# Altium footprint library Common.PcbLib: 50 footprints (part 2 of 4)
Each footprint in its own frame and in the unit in brackets; x right, y up, seen from the top. Pads: shape width x height; smd on the part's side, far side on the other; paste and mask are expansions set on the pad; w line width, h text height; cw(c..) or ccw(c..) is an arc to the next point about the centre after c.
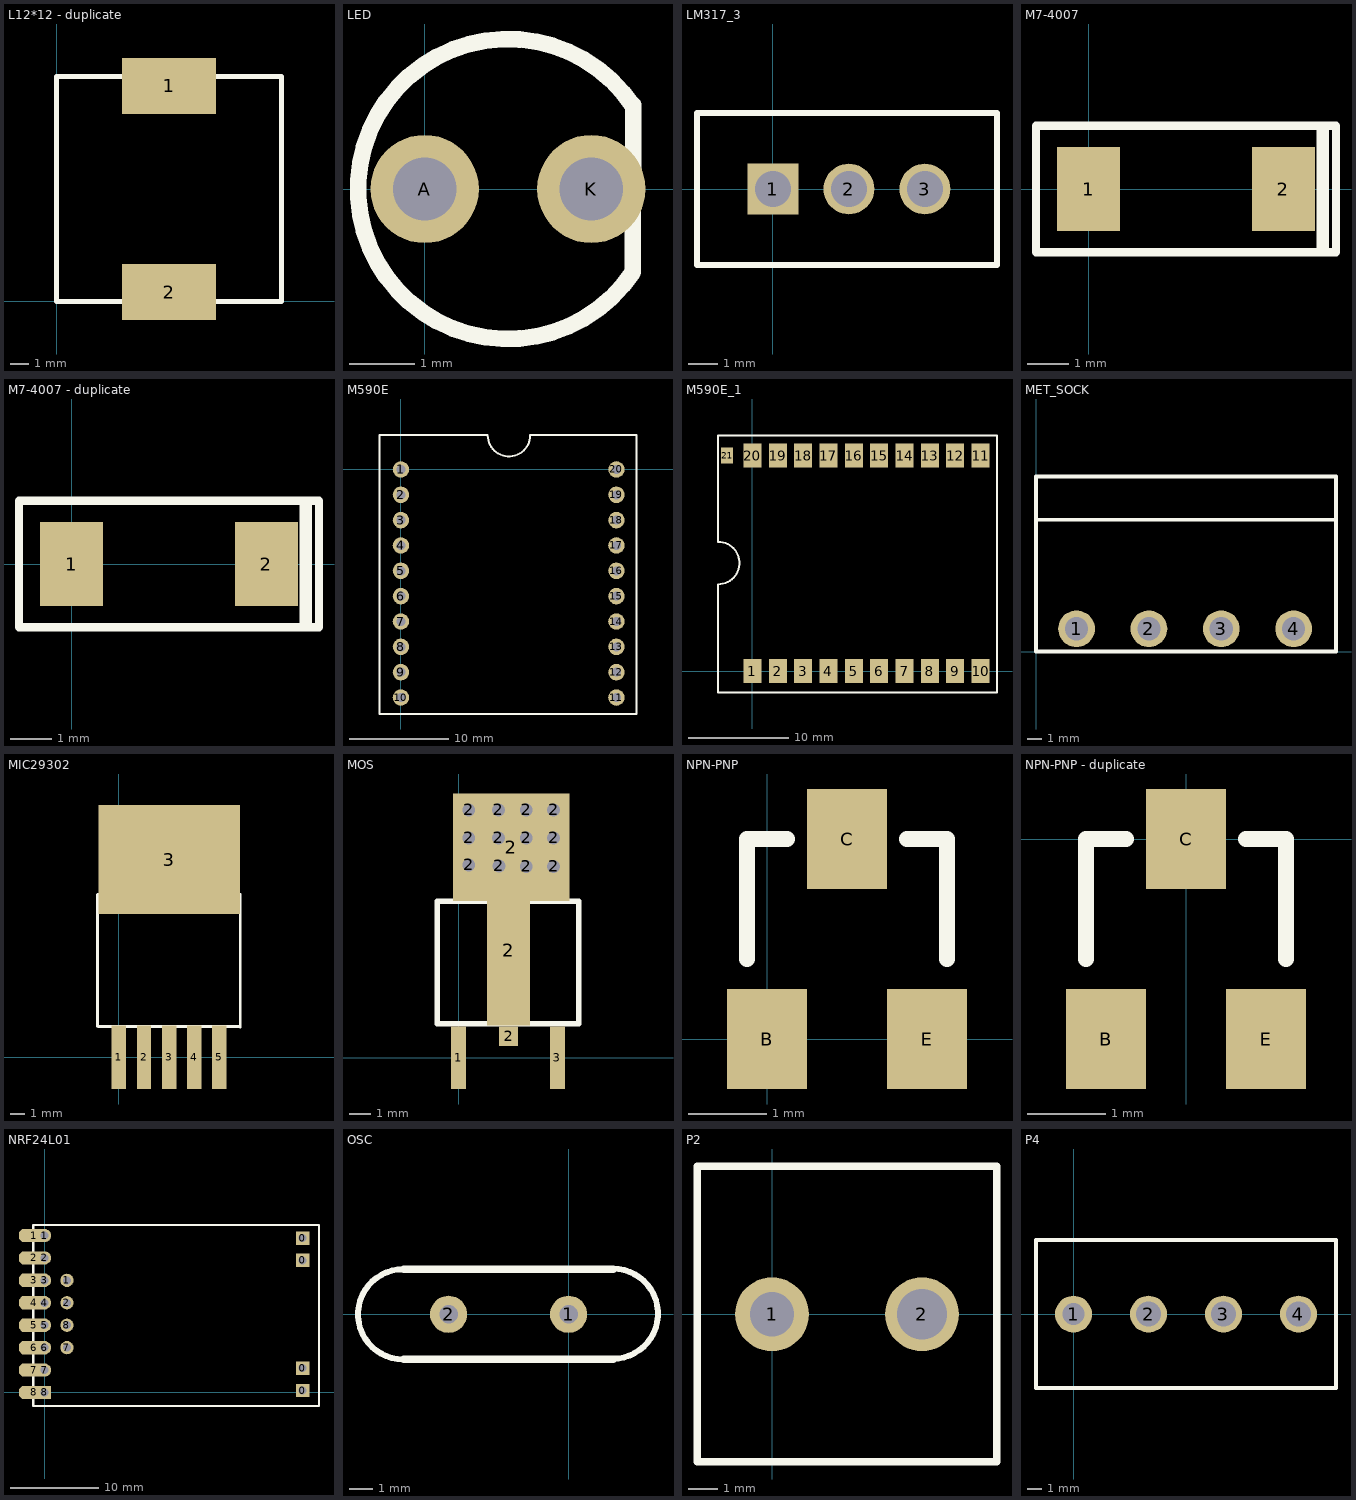
[diagram p1: the footprints below, top view; thin cyan lines are the x and y axes]

## L12*12 - duplicate [mm]
pads (2):
  rect 5x3 smd: 1(6,11.5) 2(6,0.5)
Top Overlay:
  lines w0.254: 0,0 12,0 12,12 0,12 0,0

## LED [mil]
pads (2):
  round 65 hole 38: A(0,0) K(100,0)
Top Overlay:
  lines w10: 124.88,49.92 ccw(c50,0) 124.88,-49.92 125.09,50.39

## LM317_3 [mm]
pads (3):
  rect 1.7x1.7 hole 1.2: 1(0,0)
  round 1.7 hole 1.2: 2(2.54,0) 3(5.08,0)
Top Overlay:
  lines w0.2: -2.54,-2.54 7.493,-2.54 7.493,2.54 -2.54,2.54 -2.54,-2.54

## M7-4007 [mil]
pads (2):
  rect 60x80 smd: 1(0,0) 2(185,0)
Top Overlay:
  lines w8: 220.47,-60 220.47,60 ; 224.41,-60 224.41,60 ; -50,-60 -50,60 235,60 235,-60 -50,-60

## M7-4007 - duplicate [mil]
pads (2):
  rect 60x80 smd: 1(0,0) 2(185,0)
Top Overlay:
  lines w8: 220.47,-60 220.47,60 ; 224.41,-60 224.41,60 ; -50,-60 235,-60 235,60 -50,60 -50,-60

## M590E [mil]
pads (20):
  round 65 hole 35.43: 1(0,0) 2(0,-100) 3(0,-200) 4(0,-300) 5(0,-400) 6(0,-500) 7(0,-600) 8(0,-700) 9(0,-800) 10(0,-900) 11(850.39,-900) 12(850.39,-800) 13(850.39,-700) 14(850.39,-600) 15(850.39,-500) 16(850.39,-400) 17(850.39,-300) 18(850.39,-200) 19(850.39,-100) 20(850.39,0)
Top Overlay:
  lines w7.87: 340,135 -85,135 -85,-965 930,-965 930,135 510,135 cw(c426.18,135) 342.37,135

## M590E_1 [mm]
pads (21):
  rect 1.8x2.4 smd: 1(0,0) 2(2.54,0) 3(5.08,0) 4(7.62,0) 5(10.16,0) 6(12.7,0) 7(15.24,0) 8(17.78,0) 9(20.32,0) 10(22.86,0) 11(22.86,21.6) 12(20.32,21.6) 13(17.78,21.6) 14(15.24,21.6) 15(12.7,21.6) 16(10.16,21.6) 17(7.62,21.6) 18(5.08,21.6) 19(2.54,21.6) 20(0,21.6)
  rect 1.2x1.6 smd: 21(-2.54,21.6)
Top Overlay:
  lines w0.2: -3.429,8.636 -3.429,-2.159 24.511,-2.159 24.511,23.622 -3.429,23.622 -3.429,12.954 cw(c-3.429,10.825) -3.429,8.696

## MET_SOCK [mm]
pads (4):
  round 2.54 hole 1.6: 1(2.8,1.575) 2(7.8,1.575) 3(12.8,1.575) 4(17.8,1.575)
Top Overlay:
  lines w0.254: 0,9.1 20.725,9.1 ; 0,0 0,12.1 20.725,12.1 20.725,0 0,0

## MIC29302 [mm]
pads (6):
  rect 1x4.5 smd: 1(0,0) 2(1.8,0) 3(3.583,0) 4(5.35,0) 5(7.125,0)
  rect 10x7.7 smd: 3(3.583,14)
Top Overlay:
  lines w0.2: 8.608,11.525 8.608,2.15 8.583,2.175 -1.467,2.175 -1.492,2.2 -1.492,11.525 8.608,11.525 ; 8.608,11.525 8.608,11.525

## MOS [mm]
pads (17):
  rect 0.7x2.9 smd: 1(0,0) 3(4.6,0)
  round 1 hole 0.6: 2(0.475,8.975) 2(0.475,10.225) 2(0.475,11.525) 2(1.85,10.225) 2(1.85,11.525) 2(1.875,8.925) 2(3.15,8.9) 2(3.15,10.225) 2(3.15,11.525) 2(4.425,8.9) 2(4.425,10.225) 2(4.425,11.525)
  rect 0.9x0.9 smd: 2(2.325,1)
  rect 2x7 smd: 2(2.325,5)
  rect 5.4x5 smd: 2(2.45,9.8)
Top Overlay:
  lines w0.254: -1,1.575 5.6,1.575 5.6,7.275 -1,7.275 -1,1.575

## NPN-PNP [mil]
pads (3):
  rect 40x50 smd: B(0,0) C(40,100) E(80,0)
Top Overlay:
  lines w8: -10,40 -10,100 10,100 ; 70,100 90,100 90,40

## NPN-PNP - duplicate [mil]
pads (3):
  rect 40x50 smd: B(-40,-100) C(0,0) E(40,-100)
Top Overlay:
  lines w8: -50,-60 -50,0 -30,0 ; 30,0 50,0 50,-60

## NRF24L01 [mm]
pads (24):
  rect 1.524x1.524 hole 0.9: 0(29.228,0.224) 0(29.228,2.764) 0(29.228,14.956) 0(29.228,17.496)
  oct 3.5x1.5 smd: 1(-1.143,17.78) 2(-1.143,15.24) 3(-1.143,12.7) 4(-1.143,10.16) 5(-1.143,7.62) 6(-1.143,5.08) 7(-1.143,2.54) 8(-1.143,0)
  round 1.5 hole 0.9: 1(0,17.78) 1(2.54,12.7) 2(0,15.24) 2(2.54,10.16) 3(0,12.7) 4(0,10.16) 5(0,7.62) 6(0,5.08) 7(0,2.54) 7(2.54,5.08) 8(2.54,7.62)
  rect 1.5x1.5 hole 0.9: 8(0,0)
Top Layer:
  lines w0.254: 0,15.24 0.381,15.24
Top Overlay:
  lines w0.254: -1.27,-1.524 -1.27,18.976 31.09,18.976 31.09,-1.524 -1.27,-1.524

## OSC [mil]
pads (2):
  round 62 hole 31: 1(0,0) 2(-200,0)
Top Overlay:
  lines w10: -276,-75 cw(c-276,0) -276,75 ; 74,-74 ccw(c74,1) 74,76
  lines w12: -275,-75 75,-75 ; -275,75 75,75

## P2 [mm]
pads (2):
  round 2.5 hole 1.5: 1(0,0)
  round 2.5 hole 1.7: 2(5.08,0)
Top Overlay:
  lines w0.254: -2.54,-5 7.62,-5 7.62,5.02 -2.54,5.02 -2.54,-5

## P4 [mm]
pads (4):
  round 2.5 hole 1.5: 1(0,0)
  round 2.5 hole 1.7: 2(5.08,0) 3(10.16,0) 4(15.24,0)
Top Overlay:
  lines w0.254: -2.54,-5 17.78,-5 17.78,5.02 -2.54,5.02 -2.54,-5